# EAGLE library part PSH02-07 (library #PaJa_konektory)
Konektory se zamkem - vidlice - 7pin
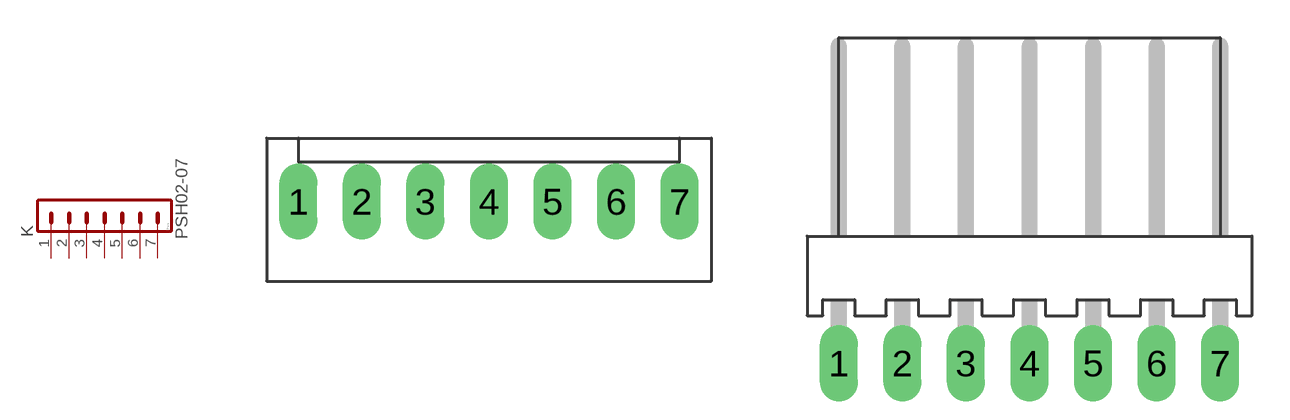
[diagram p10: symbol with the pads of PSH02-07P; footprints PSH02-07P, PSH02-07W]

Designator prefix K

## PSH02-07P  [PSH02-07P]
1  1  pas
2  2  pas
3  3  pas
4  4  pas
5  5  pas
6  6  pas
7  7  pas

## PSH02-07W  [PSH02-07W]
Pads as for PSH02-07P

## Footprint PSH02-07P (pad centres in mm)
drill 1.016 pad 1.422 long: 1 -7.62,0; 2 -5.08,0; 3 -2.54,0; 4 0,0; 5 2.54,0; 6 5.08,0; 7 7.62,0

## Footprint PSH02-07W (pad centres in mm)
drill 1.016 pad 1.422 long: 1 -7.62,0; 2 -5.08,0; 3 -2.54,0; 4 0,0; 5 2.54,0; 6 5.08,0; 7 7.62,0